# Altium footprint library FILTER-SMD_BNX022-01L.PcbLib: 1 footprints
Each footprint in its own frame and in the unit in brackets; x right, y up, seen from the top. Pads: shape width x height; smd on the part's side, far side on the other; paste and mask are expansions set on the pad; w line width, h text height; cw(c..) or ccw(c..) is an arc to the next point about the centre after c.
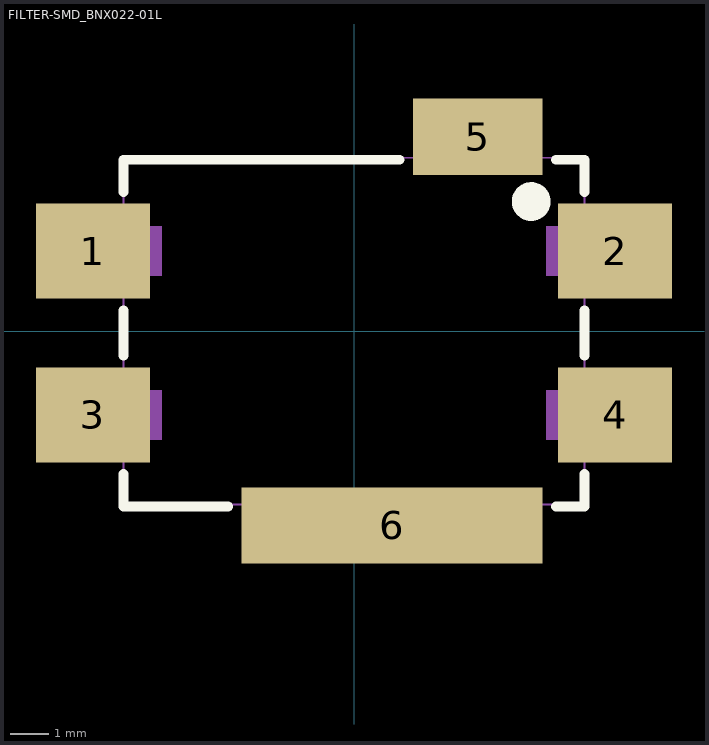
[diagram p0: the footprint, top view; thin cyan lines are the x and y axes]

## FILTER-SMD_BNX022-01L [mm]
pads (6):
  rect 3x2.5 smd paste+0 mask+0.051: 1(-6.85,2.1) 2(6.85,2.1) 3(-6.85,-2.2) 4(6.85,-2.2)
  rect 3.4x2 smd paste+0 mask+0.051: 5(3.25,5.1)
  rect 7.9x2 smd paste+0 mask+0.051: 6(1,-5.1)
Top Overlay:
  circle w0.508: c4.65,3.4 r0.254
  lines w0.254: -6.05,-3.75 -6.05,-4.6 -3.3,-4.6 ; -6.05,-0.65 -6.05,0.55 ; -6.049,3.65 -6.049,4.5 1.2,4.5 ; 5.3,-4.6 6.05,-4.6 6.05,-3.75 ; 5.3,4.5 6.05,4.5 6.05,3.65 ; 6.05,-0.65 6.05,0.55
Mechanical 6:
  circle w0.508: c-7.25,2.1 r0.254
Mechanical 15:
  region: -5.05,-1.55 -5.05,-2.85 -6.05,-2.85 -6.05,-1.55
  region: -6.05,1.45 -6.05,2.75 -5.05,2.75 -5.05,1.45
  region: 5.05,-2.85 5.05,-1.55 6.05,-1.55 6.05,-2.85
  region: 5.05,1.45 5.05,2.75 6.05,2.75 6.05,1.45
  region: 2,4.55 4.5,4.55 4.5,4.25 2,4.25
  region: -2.5,-4.25 4.5,-4.25 4.5,-4.55 -2.5,-4.55
  region: -5.99,4.55 -5.99,4.575 -6.025,4.61 -6.075,4.61 -6.11,4.575 -6.11,4.55 -6.11,4.525 -6.075,4.49 -6.025,4.49 -5.99,4.525 -5.99,4.55
  lines w0.051: -6.05,-4.55 6.05,-4.55 6.05,4.55 -6.05,4.55 -6.05,-4.55